# Altium integrated library ECS-240-20-5PX-TR.IntLib: 1 symbol
Pins are listed as number, name and electrical type; pins without a type are passive.

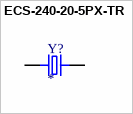
[diagram p0: symbol ECS-240-20-5PX-TR]

## ECS-240-20-5PX-TR
designator Y?
24 MHz Â±30ppm Crystal 20pF 30 Ohms HC-49/US; MF: ECS Inc.; MP: ECS-240-20-5PX-TR; Package: HC49/US ECS International; Digi-Key_Part_Number: XC1255TR-ND; Purchase-URL: https://pricing.snapeda.com/search/part/ECS-240-20-5PX-TR/?ref=eda; Value: *; SnapEDA_Link: https://www.snapeda.com/parts/ECS-240-20-5PX-TR/ECS+Inc./view-part/?ref=snap; Check_prices: https://www.snapeda.com/parts/ECS-240-20-5PX-TR/ECS+Inc./view-part/?ref=eda
footprint XTAL_ECS-240-20-5PX-TR
pins: 1, 2